# EAGLE library part RJ8_COUDE (library robotter_connector)
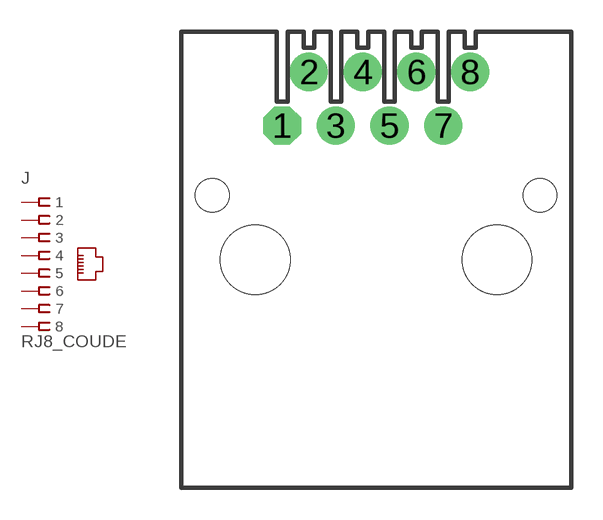
[diagram p8: symbol with the pads of 6605759-1; footprint 6605759-1]

Designator prefix J

## RJ8_COUDE  [6605759-1]
1  1  pas
2  2  pas
3  3  pas
4  4  pas
5  5  pas
6  6  pas
7  7  pas
8  8  pas

## Footprint 6605759-1 (pad centres in mm)
drill 1 pad 1.8 octagon: 1 -4.45,6.35
drill 1 pad 1.8: 2 -3.18,8.89; 3 -1.91,6.35; 4 -0.63,8.89; 5 0.63,6.35; 6 1.9,8.89; 7 3.17,6.35; 8 4.44,8.89
hole 3.3 at -5.715,0
hole 3.3 at 5.715,0
hole 1.6 at -7.747,3.048
hole 1.6 at 7.747,3.048